# EAGLE library part IRIDIUM (library cansat-lib)
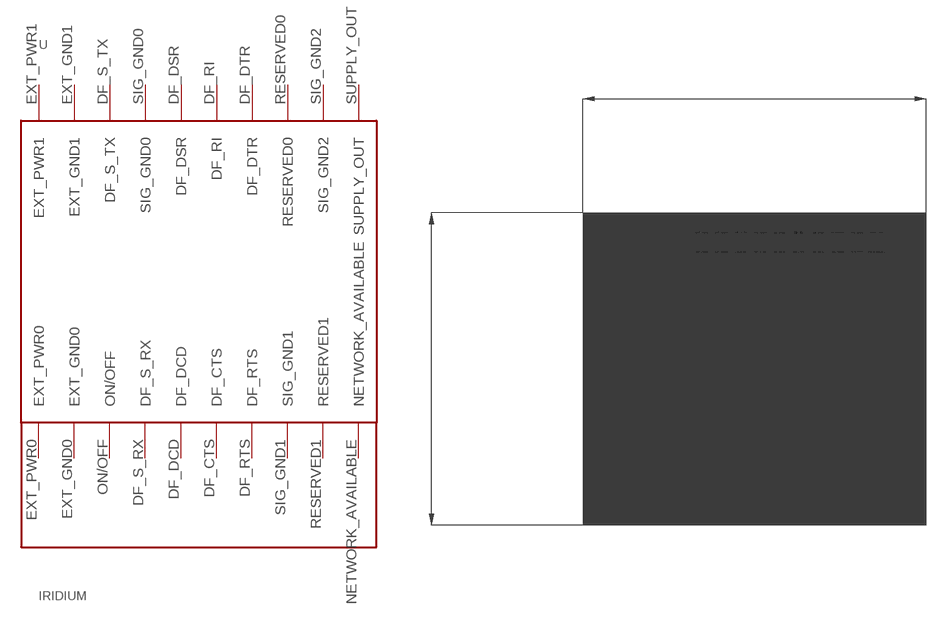
[diagram p8: symbol with the pads of IRIDIUM; footprint IRIDIUM]

Designator prefix -

## IRIDIUM  [IRIDIUM]
DF_CTS  DF_CTS
DF_DCD  DF_DCD
DF_DSR  DF_DSR
DF_DTR  DF_DTR
DF_RI  DF_RI
DF_RTS  DF_RTS
DF_S_RX  DF_S_RX
DF_S_TX  DF_S_TX
EXT_GND0  EXT_GND0
EXT_GND1  EXT_GND1
EXT_PWR0  EXT_PWR0
EXT_PWR1  EXT_PWR1
NETWORK_AVAILABLE  NETWORK_AVAILABLE
ON/OFF  ON/OFF
RESERVED0  RESERVED0
RESERVED1  RESERVED1
SIG_GND0  SIG_GND0
SIG_GND1  SIG_GND1
SIG_GND2  SIG_GND2
SUPPLY_OUT  SUPPLY_OUT

## Footprint IRIDIUM (pad centres in mm)
drill 0.8 square: DF_CTS 5.83,15.3; DF_DCD 3.29,15.3; DF_DSR 3.29,17.84; DF_DTR 8.37,17.84; DF_RI 5.83,17.84; DF_RTS 8.37,15.3; DF_S_RX 0.75,15.3; DF_S_TX -1.79,17.84; EXT_GND0 -4.33,15.3; EXT_GND1 -4.33,17.84; EXT_PWR0 -6.87,15.3; EXT_PWR1 -6.87,17.84; NETWORK_AVAILABLE 15.99,15.3; ON/OFF -1.79,15.3; RESERVED0 10.91,17.84; RESERVED1 13.45,15.3; SIG_GND0 0.75,17.84; SIG_GND1 10.91,15.3; SIG_GND2 13.45,17.84; SUPPLY_OUT 15.99,17.84
hole 3 at -19.75,17.75
hole 3 at 19.75,17.75
hole 3 at -19.75,-17.75
hole 3 at 19.75,-17.75